# EAGLE library part 74ACT7802 (library fifo)
FIFO
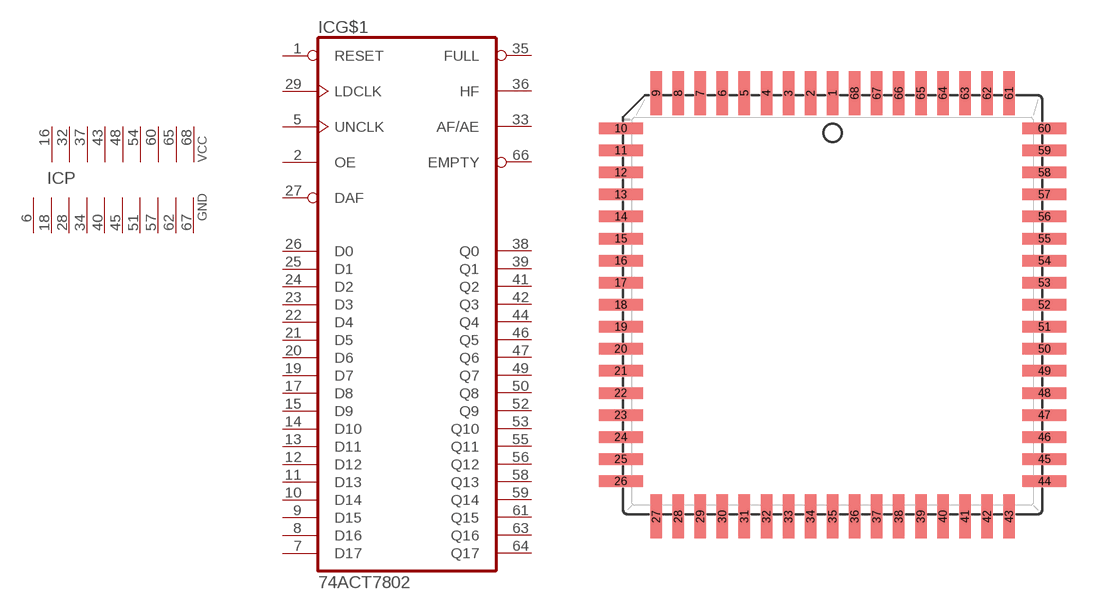
[diagram p2: symbol with the pads of PLCC68; footprint PLCC68]

Designator prefix IC; gates G$1=7802 P=9PWR10GN

## 74ACT7802 (MF: TEXAS INSTRUMENT CONNECTORS; MPN: SN74ACT7802-25FN; OC_FARNELL: unknown; OC_NEWARK: 76C1297)  [PLCC68]
1  G$1:RESET  in
2  G$1:OE  in
5  G$1:UNCLK  in
6  P:GND  pwr
7  G$1:D17  in
8  G$1:D16  in
9  G$1:D15  in
10  G$1:D14  in
11  G$1:D13  in
12  G$1:D12  in
13  G$1:D11  in
14  G$1:D10  in
15  G$1:D9  in
16  P:VCC  pwr
17  G$1:D8  in
18  P:GND  pwr
19  G$1:D7  in
20  G$1:D6  in
21  G$1:D5  in
22  G$1:D4  in
23  G$1:D3  in
24  G$1:D2  in
25  G$1:D1  in
26  G$1:D0  in
27  G$1:DAF  in
28  P:GND  pwr
29  G$1:LDCLK  in
32  P:VCC  pwr
33  G$1:AF/AE  out
34  P:GND  pwr
35  G$1:FULL  out
36  G$1:HF  out
37  P:VCC  pwr
38  G$1:Q0  out
39  G$1:Q1  out
40  P:GND  pwr
41  G$1:Q2  out
42  G$1:Q3  out
43  P:VCC  pwr
44  G$1:Q4  out
45  P:GND  pwr
46  G$1:Q5  out
47  G$1:Q6  out
48  P:VCC  pwr
49  G$1:Q7  out
50  G$1:Q8  out
51  P:GND  pwr
52  G$1:Q9  out
53  G$1:Q10  out
54  P:VCC  pwr
55  G$1:Q11  out
56  G$1:Q12  out
57  P:GND  pwr
58  G$1:Q13  out
59  G$1:Q14  out
60  P:VCC  pwr
61  G$1:Q15  out
62  P:GND  pwr
63  G$1:Q16  out
64  G$1:Q17  out
65  P:VCC  pwr
66  G$1:EMPTY  out
67  P:GND  pwr
68  P:VCC  pwr

## Footprint PLCC68 (pad centres in mm)
Plastic Leaded Carrier Package
smd 0.66 x 2.54: 1 0,12.192; 2 -1.27,12.192; 3 -2.54,12.192; 4 -3.81,12.192; 5 -5.08,12.192; 6 -6.35,12.192; 7 -7.62,12.192; 8 -8.89,12.192; 9 -10.16,12.192; 27 -10.16,-12.192; 28 -8.89,-12.192; 29 -7.62,-12.192; 30 -6.35,-12.192; 31 -5.08,-12.192; 32 -3.81,-12.192; 33 -2.54,-12.192; 34 -1.27,-12.192; 35 0,-12.192; 36 1.27,-12.192; 37 2.54,-12.192; 38 3.81,-12.192; 39 5.08,-12.192; 40 6.35,-12.192; 41 7.62,-12.192; 42 8.89,-12.192; 43 10.16,-12.192; 61 10.16,12.192; 62 8.89,12.192; 63 7.62,12.192; 64 6.35,12.192; 65 5.08,12.192; 66 3.81,12.192; 67 2.54,12.192; 68 1.27,12.192
smd 2.54 x 0.66: 10 -12.192,10.16; 11 -12.192,8.89; 12 -12.192,7.62; 13 -12.192,6.35; 14 -12.192,5.08; 15 -12.192,3.81; 16 -12.192,2.54; 17 -12.192,1.27; 18 -12.192,0; 19 -12.192,-1.27; 20 -12.192,-2.54; 21 -12.192,-3.81; 22 -12.192,-5.08; 23 -12.192,-6.35; 24 -12.192,-7.62; 25 -12.192,-8.89; 26 -12.192,-10.16; 44 12.192,-10.16; 45 12.192,-8.89; 46 12.192,-7.62; 47 12.192,-6.35; 48 12.192,-5.08; 49 12.192,-3.81; 50 12.192,-2.54; 51 12.192,-1.27; 52 12.192,0; 53 12.192,1.27; 54 12.192,2.54; 55 12.192,3.81; 56 12.192,5.08; 57 12.192,6.35; 58 12.192,7.62; 59 12.192,8.89; 60 12.192,10.16